# Altium schematic symbol library PCF85063ATL.SchLib: 1 symbol
Pins are listed as number, name and electrical type; pins without a type are passive.

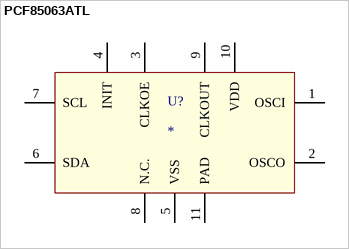
[diagram p0: symbol PCF85063ATL]

## PCF85063ATL
designator U?
pins: 1 OSCI (power), 2 OSCO (power), 3 CLKOE (power), 4 INIT (power), 5 VSS (power), 6 SDA (power), 7 SCL (power), 8 N.C.  (power), 9 CLKOUT (power), 10 VDD (power), 11 PAD (power)